# Altium footprint library STM32F103 BluePill.PcbLib: 1 footprints
Each footprint in its own frame and in the unit in brackets; x right, y up, seen from the top. Pads: shape width x height; smd on the part's side, far side on the other; paste and mask are expansions set on the pad; w line width, h text height; cw(c..) or ccw(c..) is an arc to the next point about the centre after c.
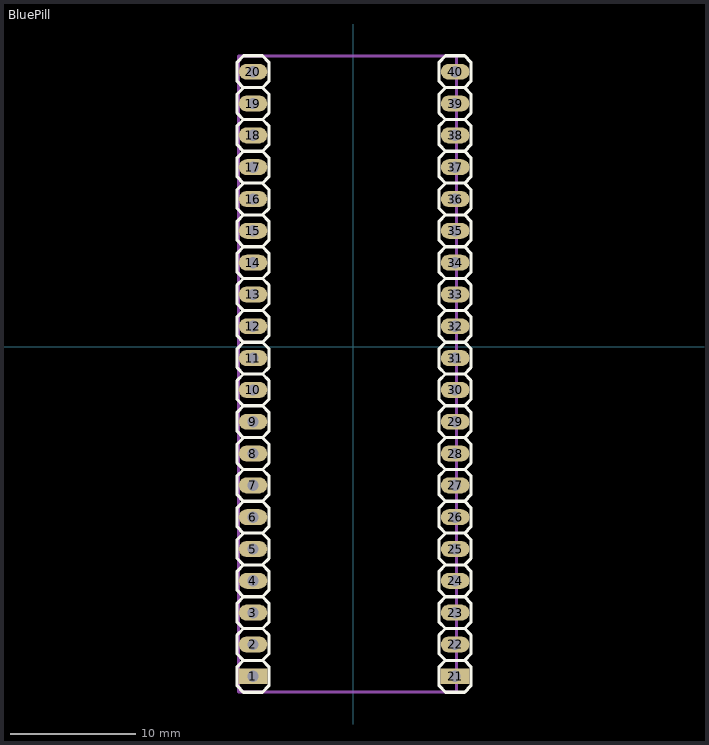
[diagram p0: the footprint, top view; thin cyan lines are the x and y axes]

## BluePill [mil]
pads (40):
  rect 90x50 hole 35.43: 1(-315,-1035) 21(320,-1035)
  oval 90x50 hole 35.43: 2(-315,-935) 3(-315,-835) 4(-315,-735) 5(-315,-635) 6(-315,-535) 7(-315,-435) 8(-315,-335) 9(-315,-235) 10(-315,-135) 11(-315,-35) 12(-315,65) 13(-315,165) 14(-315,265) 15(-315,365) 16(-315,465) 17(-315,565) 18(-315,665) 19(-315,765) 20(-315,865) 22(320,-935) 23(320,-835) 24(320,-735) 25(320,-635) 26(320,-535) 27(320,-435) 28(320,-335) 29(320,-235) 30(320,-135) 31(320,-35) 32(320,65) 33(320,165) 34(320,265) 35(320,365) 36(320,465) 37(320,565) 38(320,665) 39(320,765) 40(320,865)
Top Overlay:
  drawing of 282 lines, arcs and shapes, not listed
Mechanical 1:
  text "STM32F103 BluePill" at -300,1025 h35
Mechanical 3:
  lines w9.84: -360,-1085 325,-1085 325,915 -360,915 -360,-1085
3D body "PIN.STEP": height 101.97, standoff -328.03, extent -370,-1094.98 -270,-994.98
3D body "PIN_mid.STEP": height 101.97, standoff -328.03, extent -370,-995 -270,-895
3D body "PIN_mid.STEP": height 101.97, standoff -328.03, extent -370,-895 -270,-795
3D body "PIN_mid.STEP": height 101.97, standoff -328.03, extent -370,-795 -270,-695
3D body "PIN_mid.STEP": height 101.97, standoff -328.03, extent -370,-695 -270,-595
3D body "PIN_mid.STEP": height 101.97, standoff -328.03, extent -370,-595 -270,-495
3D body "PIN_mid.STEP": height 101.97, standoff -328.03, extent -370,-495 -270,-395
3D body "PIN_mid.STEP": height 101.97, standoff -328.03, extent -370,-395 -270,-295
3D body "PIN_mid.STEP": height 101.97, standoff -328.03, extent -370,-295 -270,-195
3D body "PIN_mid.STEP": height 101.97, standoff -328.03, extent -370,-195 -270,-95
3D body "PIN_mid.STEP": height 101.97, standoff -328.03, extent -370,-95 -270,5
3D body "PIN_mid.STEP": height 101.97, standoff -328.03, extent -370,5 -270,105
3D body "PIN_mid.STEP": height 101.97, standoff -328.03, extent -370,105 -270,205
3D body "PIN_mid.STEP": height 101.97, standoff -328.03, extent -370,205 -270,305
3D body "PIN_mid.STEP": height 101.97, standoff -328.03, extent -370,305 -270,405
3D body "PIN_mid.STEP": height 101.97, standoff -328.03, extent -370,405 -270,505
3D body "PIN_mid.STEP": height 101.97, standoff -328.03, extent -370,505 -270,605
3D body "PIN_mid.STEP": height 101.97, standoff -328.03, extent -370,605 -270,705
3D body "PIN_mid.STEP": height 101.97, standoff -328.03, extent -370,705 -270,805
3D body "PIN.STEP": height 101.97, standoff -328.03, extent -370,805 -270,905
3D body "PIN.STEP": height 101.97, standoff -328.03, extent 270,-1084.98 370,-984.98
3D body "PIN_mid.STEP": height 101.97, standoff -328.03, extent 270,-985 370,-885
3D body "PIN_mid.STEP": height 101.97, standoff -328.03, extent 270,-885 370,-785
3D body "PIN_mid.STEP": height 101.97, standoff -328.03, extent 270,-785 370,-685
3D body "PIN_mid.STEP": height 101.97, standoff -328.03, extent 270,-685 370,-585
3D body "PIN_mid.STEP": height 101.97, standoff -328.03, extent 270,-585 370,-485
3D body "PIN_mid.STEP": height 101.97, standoff -328.03, extent 270,-485 370,-385
3D body "PIN_mid.STEP": height 101.97, standoff -328.03, extent 270,-385 370,-285
3D body "PIN_mid.STEP": height 101.97, standoff -328.03, extent 270,-285 370,-185
3D body "PIN_mid.STEP": height 101.97, standoff -328.03, extent 270,-185 370,-85
3D body "PIN_mid.STEP": height 101.97, standoff -328.03, extent 270,-85 370,15
3D body "PIN_mid.STEP": height 101.97, standoff -328.03, extent 270,15 370,115
3D body "PIN_mid.STEP": height 101.97, standoff -328.03, extent 270,115 370,215
3D body "PIN_mid.STEP": height 101.97, standoff -328.03, extent 270,215 370,315
3D body "PIN_mid.STEP": height 101.97, standoff -328.03, extent 270,315 370,415
3D body "PIN_mid.STEP": height 101.97, standoff -328.03, extent 270,415 370,515
3D body "PIN_mid.STEP": height 101.97, standoff -328.03, extent 270,515 370,615
3D body "PIN_mid.STEP": height 101.97, standoff -328.03, extent 270,615 370,715
3D body "PIN_mid.STEP": height 101.97, standoff -328.03, extent 270,715 370,815
3D body "PIN.STEP": height 101.97, standoff -328.03, extent 270,815 370,915
3D body: height 10, standoff 0, extent -265,-1080 270,900